# Altium footprint library DIODE_SMA.PcbLib: 1 footprints
Each footprint in its own frame and in the unit in brackets; x right, y up, seen from the top. Pads: shape width x height; smd on the part's side, far side on the other; paste and mask are expansions set on the pad; w line width, h text height; cw(c..) or ccw(c..) is an arc to the next point about the centre after c.
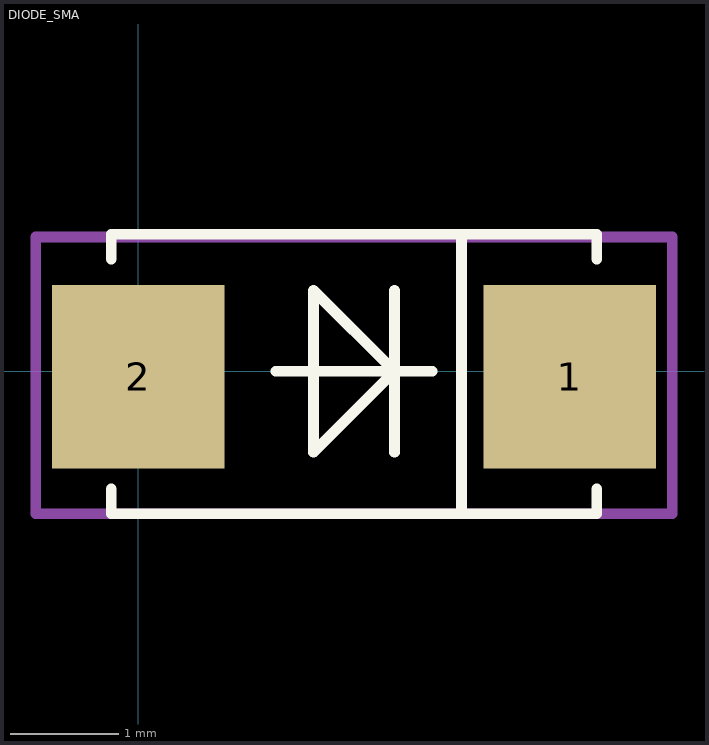
[diagram p0: the footprint, top view; thin cyan lines are the x and y axes]

## DIODE_SMA [mm] "Diode SMB Gehäuse"
pads (2):
  rect 1.6x1.7 smd: 1(4,-0.05) 2(0,-0.05)
Top Overlay:
  lines w0.1: -0.25,-1.092 -0.25,-1.321 4.25,-1.321 4.25,-1.092 ; -0.25,1.041 -0.25,1.27 4.25,1.27 4.25,1.041 ; 1.275,0 2.725,0 ; 2.375,-0.75 2.375,0.75 ; 2.997,-1.321 2.997,1.245 ; 1.625,-0.75 2.375,0 1.625,0.75 1.625,-0.75
Mechanical 15:
  lines w0.1: -0.95,-1.321 -0.95,1.245 4.95,1.245 4.95,-1.321 -0.95,-1.321
3D body "SW3dPS-DO-214AC SMA.STEP": height 2.4, standoff 0, extent -0.619,-1.326 4.581,1.274